# Altium footprint library SDCARD.PcbLib: 1 footprints
Each footprint in its own frame and in the unit in brackets; x right, y up, seen from the top. Pads: shape width x height; smd on the part's side, far side on the other; paste and mask are expansions set on the pad; w line width, h text height; cw(c..) or ccw(c..) is an arc to the next point about the centre after c.
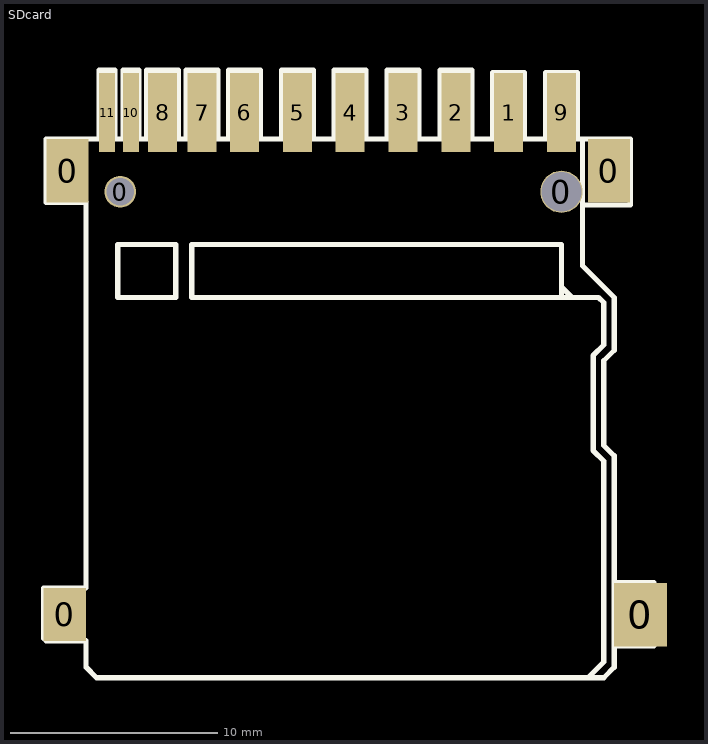
[diagram p0: the footprint, top view; thin cyan lines are the x and y axes]

## SDcard [mil] "SDcard"
pads (17):
  rect 80x100 smd: 0(-29605,-29700)
  rect 80x120 smd: 0(-29600,-28860) 0(-28575,-28860)
  round 60 hole 52: 0(-29500,-28900)
  round 80 hole 75: 0(-28665,-28900)
  rect 100x120 smd: 0(-28515.37,-29700.84)
  rect 55x150 smd: 1(-28765,-28750) 2(-28865,-28750) 3(-28965,-28750) 4(-29065,-28750) 5(-29165,-28750) 6(-29265,-28750) 7(-29345,-28750) 8(-29420,-28750) 9(-28665,-28750)
  rect 30x150 smd: 10(-29480,-28750) 11(-29525,-28750)
Top Overlay:
  lines w10: -29540,-28800 -29540,-28670 -29510,-28670 -29510,-28800 -29565,-28800 -29640,-28800 -29640,-28920 -29565,-28920 -29565,-29650 -29645,-29650 -29645,-29745 -29640,-29750 -29565,-29750 -29565,-29800 -29545,-29820 -29535,-29820 -28585,-29820 -28565,-29800 -28565,-29400 -28585,-29380 -28585,-29220 -28565,-29200 -28565,-29190 -28565,-29120 -28565,-29100 -28625,-29040 -28625,-28810 -28625,-28800 ; -29515,-28800 -28625,-28800 ; -29495,-28800 -29495,-28670 -29465,-28670 -29465,-28800 ; -29450,-28795 -29450,-28670 -29390,-28670 -29390,-28795 ; -29415,-29100 -29395,-29100 -29395,-29000 -29505,-29000 -29505,-29100 -29405,-29100 ; -29375,-28795 -29375,-28670 -29315,-28670 -29315,-28795 ; -29295,-28795 -29295,-28670 -29235,-28670 -29235,-28795 ; -29195,-28795 -29195,-28670 -29135,-28670 -29135,-28795 ; -29095,-28795 -29095,-28670 -29035,-28670 -29035,-28795 ; -28995,-28795 -28995,-28670 -28935,-28670 -28935,-28795 ; -28895,-28795 -28895,-28670 -28835,-28670 -28835,-28795 ; -28795,-28800 -28795,-28675 -28735,-28675 -28735,-28800 ; -28695,-28800 -28695,-28675 -28635,-28675 -28635,-28800 ; -28665,-29080 -28645,-29100 ; -28625,-28925 -28535,-28925 -28535,-28800 -28625,-28800 ; -28615,-29820 -28585,-29790 -28585,-29420 -28585,-29410 -28605,-29390 -28605,-29210 -28585,-29190 -28585,-29110 -28595,-29100 -28665,-29100 ; -28565,-29760 -28490,-29760 ; -28565,-29640 -28490,-29640 ; -28665,-29100 -29365,-29100 -29365,-29000 -28665,-29000 -28665,-29090 -28665,-29100